# EAGLE library part TPS2511 (library USB_Charger)
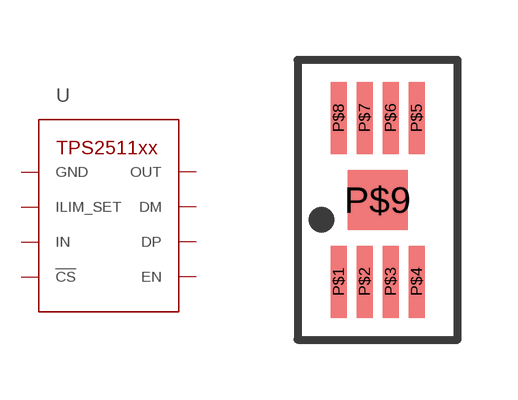
[diagram p0: symbol with the pads of SO-8; footprint SO-8]

Designator prefix U

## TPS2511DGN  [SO-8]
P$1  GND  pwr
P$2  ILIM_SET
P$3  IN  pwr
P$4  !CS!
P$5  EN
P$6  DP
P$7  DM
P$8  OUT
P$9  GND  pwr

## Footprint SO-8 (pad centres in mm)
smd 0.4 x 1.8: P$1 -0.975,-2.05; P$2 -0.325,-2.05; P$3 0.325,-2.05; P$4 0.975,-2.05; P$5 0.975,2.05; P$6 0.325,2.05; P$7 -0.325,2.05; P$8 -0.975,2.05
smd 1.5 x 1.5: P$9 0,0